# Altium footprint library alexsb.PCBLIB: 444 footprints (part 20 of 28)
Each footprint in its own frame and in the unit in brackets; x right, y up, seen from the top. Pads: shape width x height; smd on the part's side, far side on the other; paste and mask are expansions set on the pad; w line width, h text height; cw(c..) or ccw(c..) is an arc to the next point about the centre after c.
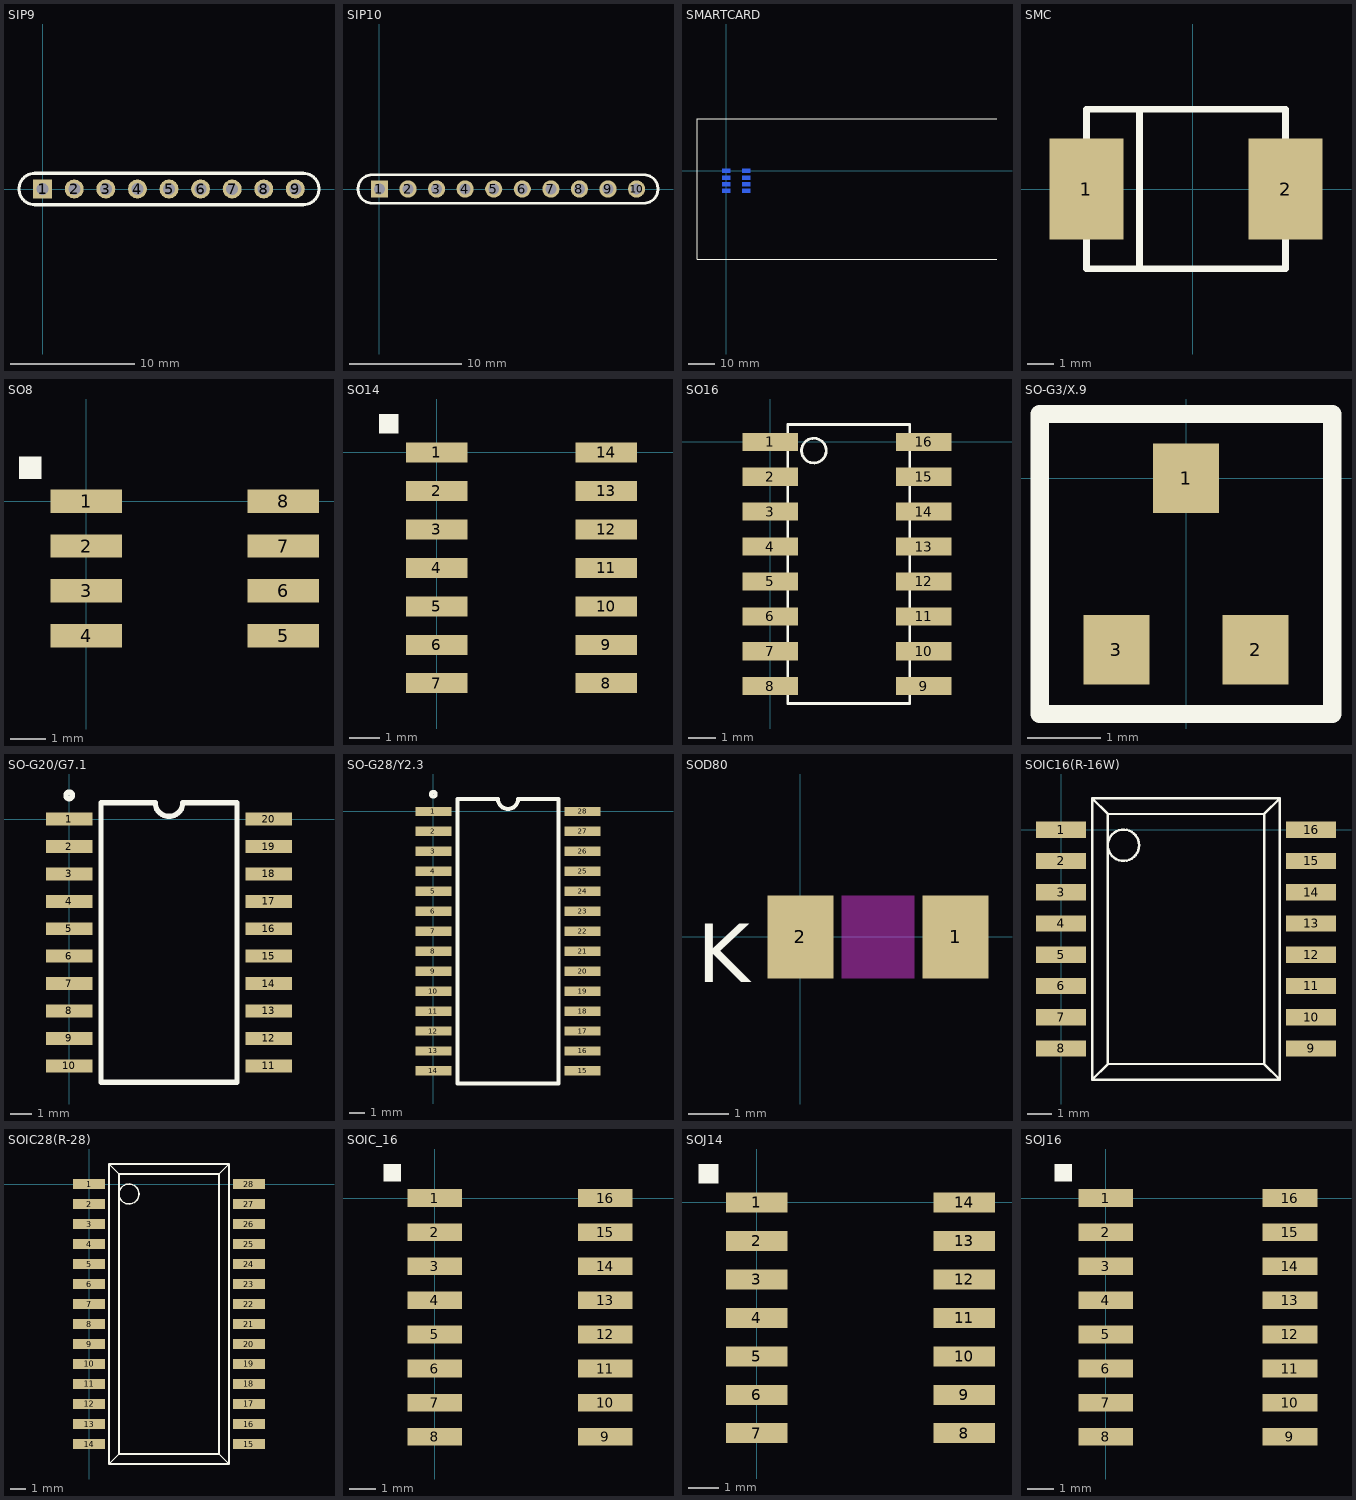
[diagram p19: the footprints below, top view; thin cyan lines are the x and y axes]

## SIP9 [mil]
pads (9):
  rect 60x60 hole 38: 1(0,0)
  round 60 hole 38: 2(100,0) 3(200,0) 4(300,0) 5(400,0) 6(500,0) 7(600,0) 8(700,0) 9(800,0)
Top Overlay:
  lines w10: -25,-50 cw(c-25,0) -25,50 825,50 cw(c825,0) 825,-50 -25,-50

## SIP10 [mil]
pads (10):
  rect 60x60 hole 38: 1(0,0)
  round 60 hole 38: 2(100,0) 3(200,0) 4(300,0) 5(400,0) 6(500,0) 7(600,0) 8(700,0) 9(800,0) 10(900,0)
Top Overlay:
  lines w10: -25,-50 cw(c-25,0) -25,50 925,50 cw(c925,0) 925,-50 -25,-50

## SMARTCARD [mm]
pads (8):
  rect 3x1.5 smd far side: 1(0,0) 2(0,-2.54) 3(0,-5.08) 4(0,-7.62) 5(7.62,0) 6(7.62,-2.54) 7(7.62,-5.08) 8(7.62,-7.62)
Top Overlay:
  lines w0.1: 103.75,-33.92 -11.25,-33.92 -11.25,20.08 103.75,20.08

## SMC [mm]
pads (2):
  rect 2.8x3.8 smd: 1(-4,0) 2(3.5,0)
Top Overlay:
  lines w0.254: -2,-3 -2,3 ; -4,-3 3.5,-3 3.5,3 -4,3 -4,-3

## SO8 [mil]
pads (8):
  rect 80x26 smd: 1(0,0) 2(0,-50) 3(0,-100) 4(0,-150) 5(220,-150) 6(220,-100) 7(220,-50) 8(220,0)
Top Overlay:
  region: -75,25 -50,25 -50,50 -75,50

## SO14 [mil]
pads (14):
  rect 80x26 smd: 1(0,0) 2(0,-50) 3(0,-100) 4(0,-150) 5(0,-200) 6(0,-250) 7(0,-300) 8(220,-300) 9(220,-250) 10(220,-200) 11(220,-150) 12(220,-100) 13(220,-50) 14(220,0)
Top Overlay:
  region: -75,25 -50,25 -50,50 -75,50

## SO16 [mil]
pads (16):
  rect 80x26 smd: 1(0,0) 2(0,-50) 3(0,-100) 4(0,-150) 5(0,-200) 6(0,-250) 7(0,-300) 8(0,-350) 9(220,-350) 10(220,-300) 11(220,-250) 12(220,-200) 13(220,-150) 14(220,-100) 15(220,-50) 16(220,0)
Top Overlay:
  circle w3.94: c62.5,-12.5 r17.68
  lines w3.94: 25,-375 200,-375 200,25 25,25 25,-375

## SO-G3/X.9 [mm]
pads (3):
  rect 0.9x0.95 smd: 1(0,0) 2(0.95,-2.35) 3(-0.95,-2.35)
Top Overlay:
  lines w0.25: -2,-3.225 -2,0.875 2,0.875 2,-3.225 -2,-3.225

## SO-G20/G7.1 [mm]
pads (20):
  rect 2.15x0.6 smd: 1(0,0) 2(0,-1.27) 3(0,-2.54) 4(0,-3.81) 5(0,-5.08) 6(0,-6.35) 7(0,-7.62) 8(0,-8.89) 9(0,-10.16) 10(0,-11.43) 11(9.25,-11.43) 12(9.25,-10.16) 13(9.25,-8.89) 14(9.25,-7.62) 15(9.25,-6.35) 16(9.25,-5.08) 17(9.25,-3.81) 18(9.25,-2.54) 19(9.25,-1.27) 20(9.25,0)
Top Overlay:
  circle w0.25: c0,1.1 r0.15
  lines w0.25: 1.475,-12.19 1.475,0.76 3.99,0.76 ccw(c4.625,0.76) 5.26,0.76 7.775,0.76 7.775,-12.19 1.475,-12.19

## SO-G28/Y2.3 [mm]
pads (28):
  rect 2.3x0.6 smd: 1(0,0) 2(0,-1.27) 3(0,-2.54) 4(0,-3.81) 5(0,-5.08) 6(0,-6.35) 7(0,-7.62) 8(0,-8.89) 9(0,-10.16) 10(0,-11.43) 11(0,-12.7) 12(0,-13.97) 13(0,-15.24) 14(0,-16.51) 15(9.5,-16.51) 16(9.5,-15.24) 17(9.5,-13.97) 18(9.5,-12.7) 19(9.5,-11.43) 20(9.5,-10.16) 21(9.5,-8.89) 22(9.5,-7.62) 23(9.5,-6.35) 24(9.5,-5.08) 25(9.5,-3.81) 26(9.5,-2.54) 27(9.5,-1.27) 28(9.5,0)
Top Overlay:
  circle w0.25: c0,1.1 r0.15
  lines w0.25: 1.55,-17.305 7.95,-17.305 7.95,0.795 5.385,0.795 cw(c4.75,0.795) 4.115,0.795 1.55,0.795 1.55,-17.305

## SOD80 [mil]
pads (2):
  rect 64x80 smd: 1(150,0) 2(0,0)
Top Overlay:
  text "K" at -100,-44 h56.88
Multi-Layer keep-out:
  region: 110,-40 110,40 40,40 40,-40

## SOIC16(R-16W) [mil]
pads (16):
  rect 80x26 smd: 1(0,0) 2(0,-50) 3(0,-100) 4(0,-150) 5(0,-200) 6(0,-250) 7(0,-300) 8(0,-350) 9(400,-350) 10(400,-300) 11(400,-250) 12(400,-200) 13(400,-150) 14(400,-100) 15(400,-50) 16(400,0)
Top Overlay:
  circle w3.94: c100,-25 r25
  lines w3.94: 50,-400 75,-375 ; 50,-400 50,50 ; 50,-400 350,-400 ; 50,50 75,25 ; 50,50 350,50 ; 75,-375 325,-375 ; 75,-375 75,25 ; 75,25 325,25 ; 325,-375 350,-400 ; 325,-375 325,25 ; 325,25 350,50 ; 350,-400 350,50

## SOIC28(R-28) [mil]
pads (28):
  rect 80x26 smd: 1(0,0) 2(0,-50) 3(0,-100) 4(0,-150) 5(0,-200) 6(0,-250) 7(0,-300) 8(0,-350) 9(0,-400) 10(0,-450) 11(0,-500) 12(0,-550) 13(0,-600) 14(0,-650) 15(400,-650) 16(400,-600) 17(400,-550) 18(400,-500) 19(400,-450) 20(400,-400) 21(400,-350) 22(400,-300) 23(400,-250) 24(400,-200) 25(400,-150) 26(400,-100) 27(400,-50) 28(400,0)
Top Overlay:
  circle w3.94: c100,-25 r25
  lines w3.94: 50,-700 75,-675 ; 50,-700 350,-700 ; 50,-700 50,50 ; 50,50 75,25 ; 50,50 350,50 ; 75,-675 75,25 ; 75,-675 325,-675 ; 75,25 325,25 ; 325,-675 350,-700 ; 325,-675 325,25 ; 325,25 350,50 ; 350,-700 350,50

## SOIC_16 [mil]
pads (16):
  rect 80x26 smd: 1(0,0) 2(0,-50) 3(0,-100) 4(0,-150) 5(0,-200) 6(0,-250) 7(0,-300) 8(0,-350) 9(250,-350) 10(250,-300) 11(250,-250) 12(250,-200) 13(250,-150) 14(250,-100) 15(250,-50) 16(250,0)
Top Overlay:
  region: -75,25 -50,25 -50,50 -75,50

## SOJ14 [mil]
pads (14):
  rect 80x26 smd: 1(0,0) 2(0,-50) 3(0,-100) 4(0,-150) 5(0,-200) 6(0,-250) 7(0,-300) 8(270,-300) 9(270,-250) 10(270,-200) 11(270,-150) 12(270,-100) 13(270,-50) 14(270,0)
Top Overlay:
  region: -75,25 -50,25 -50,50 -75,50

## SOJ16 [mil]
pads (16):
  rect 80x26 smd: 1(0,0) 2(0,-50) 3(0,-100) 4(0,-150) 5(0,-200) 6(0,-250) 7(0,-300) 8(0,-350) 9(270,-350) 10(270,-300) 11(270,-250) 12(270,-200) 13(270,-150) 14(270,-100) 15(270,-50) 16(270,0)
Top Overlay:
  region: -75,25 -50,25 -50,50 -75,50